# Altium footprint library LibFootprint1819.PcbLib: 8 footprints
Each footprint in its own frame and in the unit in brackets; x right, y up, seen from the top. Pads: shape width x height; smd on the part's side, far side on the other; paste and mask are expansions set on the pad; w line width, h text height; cw(c..) or ccw(c..) is an arc to the next point about the centre after c.
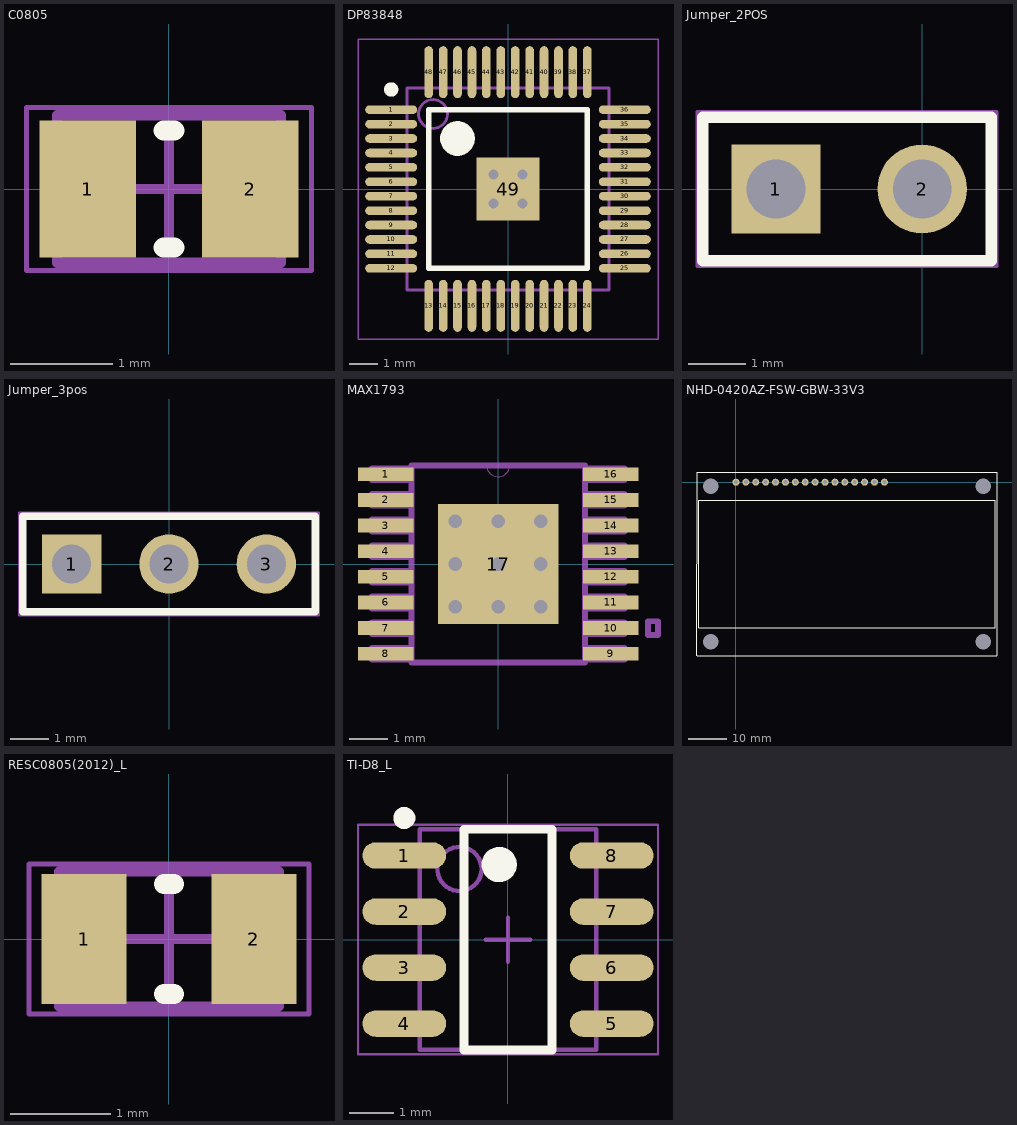
[diagram p0: the footprints below, top view; thin cyan lines are the x and y axes]

## C0805 [mm]
height 1.45
pads (2):
  rect 0.95x1.35 smd: 1(-0.8,0) 2(0.8,0)
Top Overlay:
  lines w0.2: -0.05,-0.575 0.05,-0.575 ; -0.05,0.575 0.05,0.575
Mechanical 13:
  lines w0.1: -1.1,-0.725 -1.1,0.725 1.1,0.725 1.1,-0.725 -1.1,-0.725
Mechanical 15:
  lines w0.05: -1.4,-0.8 -1.4,0.8 1.4,0.8 1.4,-0.8 -1.4,-0.8
  lines w0.1: -0.5,0 0.5,0 ; 0,-0.5 0,0.5
3D body: height 1.45, standoff 0, extent -0.6,-0.725 0.6,0.725
3D body: height 1.45, standoff 0, extent -1.1,-0.725 -0.6,0.725
3D body: height 1.45, standoff 0, extent 0.6,-0.725 1.1,0.725

## DP83848 [mm] "Thin QFP, 48-Leads, Body 7x7mm, Pitch 0.5mm, Exposed Pad, IPC Medium Density"
height 1.6
pads (49):
  oval 1.8x0.3 smd: 1(-4.05,2.75) 2(-4.05,2.25) 3(-4.05,1.75) 4(-4.05,1.25) 5(-4.05,0.75) 6(-4.05,0.25) 7(-4.05,-0.25) 8(-4.05,-0.75) 9(-4.05,-1.25) 10(-4.05,-1.75) 11(-4.05,-2.25) 12(-4.05,-2.75) 25(4.05,-2.75) 26(4.05,-2.25) 27(4.05,-1.75) 28(4.05,-1.25) 29(4.05,-0.75) 30(4.05,-0.25) 31(4.05,0.25) 32(4.05,0.75) 33(4.05,1.25) 34(4.05,1.75) 35(4.05,2.25) 36(4.05,2.75)
  oval 0.3x1.8 smd: 13(-2.75,-4.05) 14(-2.25,-4.05) 15(-1.75,-4.05) 16(-1.25,-4.05) 17(-0.75,-4.05) 18(-0.25,-4.05) 19(0.25,-4.05) 20(0.75,-4.05) 21(1.25,-4.05) 22(1.75,-4.05) 23(2.25,-4.05) 24(2.75,-4.05) 37(2.75,4.05) 38(2.25,4.05) 39(1.75,4.05) 40(1.25,4.05) 41(0.75,4.05) 42(0.25,4.05) 43(-0.25,4.05) 44(-0.75,4.05) 45(-1.25,4.05) 46(-1.75,4.05) 47(-2.25,4.05) 48(-2.75,4.05)
  rect 2.2x2.2 smd: 49(0,0)
via 0.5,-0.5 diameter 0.7 hole 0.35
via -0.5,-0.5 diameter 0.7 hole 0.35
via 0.5,0.5 diameter 0.7 hole 0.35
via -0.5,0.5 diameter 0.7 hole 0.35
Top Overlay:
  circle w0.6: c-1.75,1.75 r0.3
  circle w0.25: c-4.05,3.45 r0.125
  lines w0.2: -2.75,-2.75 2.75,-2.75 2.75,2.75 -2.75,2.75 -2.75,-2.75
Mechanical 13:
  circle w0.1: c-2.6,2.6 r0.5
  lines w0.1: -3.5,-3.5 3.5,-3.5 3.5,3.5 -3.5,3.5 -3.5,-3.5
Mechanical 15:
  lines w0.05: -5.2,-5.2 5.2,-5.2 5.2,5.2 -5.2,5.2 -5.2,-5.2
  lines w0.1: -0.5,0 0.5,0 ; 0,-0.5 0,0.5
3D body: height 1.6, standoff 0, extent -3.5,-3.5 3.5,3.5

## Jumper_2POS [mm]
height 8.38
pads (2):
  rect 1.55x1.55 hole 1.02: 1(-2.54,0)
  round 1.55 hole 1.02: 2(0,0)
Top Overlay:
  lines w0.2: -3.81,-1.245 1.2,-1.245 1.2,1.245 -3.81,1.245 -3.81,-1.245
Mechanical 13:
  lines w0.1: 1.2,1.245 -3.81,1.245 -3.81,-1.245 1.21,-1.245 1.21,-0.622 1.21,0.622 1.21,1.245
Mechanical 15:
  lines w0.05: -3.91,-1.345 -3.91,1.345 1.3,1.345 1.3,0.673 1.3,-0.673 1.3,-1.345 -3.91,-1.345
  lines w0.1: -0.5,0 0.5,0 ; 0,-0.5 0,0.5
3D body: height 0.25, standoff 0, extent -3.81,-1.245 1.21,1.245

## Jumper_3pos [mm]
height 8.38
pads (3):
  rect 1.55x1.55 hole 1.02: 1(-2.54,0)
  round 1.55 hole 1.02: 2(0,0) 3(2.54,0)
Top Overlay:
  lines w0.2: -3.81,-1.245 -3.81,1.245 3.81,1.245 3.81,-1.245 -3.81,-1.245
Mechanical 13:
  lines w0.1: -3.81,-1.245 -3.81,1.245 3.81,1.245 3.81,-1.245 -3.81,-1.245
Mechanical 15:
  lines w0.05: -3.91,-1.345 3.91,-1.345 3.91,1.345 -3.91,1.345 -3.91,-1.345
  lines w0.1: -0.5,0 0.5,0 ; 0,-0.5 0,0.5
3D body "022284033.stp": height 8.38, standoff -3.17, extent -3.81,-1.244 3.81,1.245

## MAX1793 [mil]
pads (17):
  rect 56x14 smd: 1(-114,91) 2(-114,65) 3(-114,39) 4(-114,13) 5(-114,-13) 6(-114,-39) 7(-114,-65) 8(-114,-91) 9(114,-91) 10(114,-65) 11(114,-39) 12(114,-13) 13(114,13) 14(114,39) 15(114,65) 16(114,91)
  rect 122x122 smd: 17(0,0)
via -43.31,43.31 diameter 27.56 hole 13.78
via 43.31,43.31 diameter 27.56 hole 13.78
via 0,43.31 diameter 27.56 hole 13.78
via -43.31,-43.31 diameter 27.56 hole 13.78
via -43.31,0 diameter 27.56 hole 13.78
via 0,-43.31 diameter 27.56 hole 13.78
via 43.31,-43.31 diameter 27.56 hole 13.78
via 43.31,0 diameter 27.56 hole 13.78
via 0,0 diameter 27.56 hole 13.78
Top Paste:
  lines w6: -57,-57 -4,-57 -4,-4 -57,-4 -57,-57 ; -57,4 -4,4 -4,57 -57,57 -57,4 ; 4,-57 57,-57 57,-4 4,-4 4,-57 ; 4,4 57,4 57,57 4,57 4,4
Mechanical 4:
  drawing of 156 lines, arcs and shapes, not listed
  text "*" at -172.56,107.55 h73.82
  text "*" at -172.56,107.55 h73.82

## NHD-0420AZ-FSW-GBW-33V3 [mm] "Ecran LCD 3V3"
pads (20):
  round 1.8 hole 1: 1(0,0) 2(2.54,0) 3(5.08,0) 4(7.62,0) 5(10.16,0) 6(12.7,0) 7(15.24,0) 8(17.78,0) 9(20.32,0) 10(22.86,0) 11(25.4,0) 12(27.94,0) 13(30.48,0) 14(33.02,0) 15(35.56,0) 16(38.1,0)
  round 1.524 hole 4: 17(-6.5,-41) 17(-6.5,-1) 17(63.5,-41) 17(63.5,-1)
Top Overlay:
  lines w0.254: -10,-44.5 67,-44.5 67,2.5 -10,2.5 -10,-44.5 ; -9.6,-37.3 -9.6,-4.7 66.6,-4.7 66.6,-37.3 -9.6,-37.3

## RESC0805(2012)_L [mm]
height 0.7
pads (2):
  rect 0.85x1.3 smd: 1(-0.85,0) 2(0.85,0)
Top Overlay:
  lines w0.2: -0.05,-0.55 0.05,-0.55 ; -0.05,0.55 0.05,0.55
Mechanical 13:
  lines w0.1: -1.1,-0.675 -1.1,0.675 1.1,0.675 1.1,-0.675 -1.1,-0.675
Mechanical 15:
  lines w0.05: -1.4,-0.75 -1.4,0.75 1.4,0.75 1.4,-0.75 -1.4,-0.75
  lines w0.1: -0.5,0 0.5,0 ; 0,-0.5 0,0.5
3D body: height 0.7, standoff 0, extent -1.1,-0.675 -0.68,0.675
3D body: height 0.7, standoff 0, extent -0.68,-0.675 0.68,0.675
3D body: height 0.7, standoff 0, extent 0.68,-0.675 1.1,0.675

## TI-D8_L [mm] "SOIC, 8-Leads, Body 4.9x3.9mm, Pitch 1.27mm, IPC High Density"
height 1.75
pads (8):
  oval 1.9x0.6 smd: 1(-2.35,1.905) 2(-2.35,0.635) 3(-2.35,-0.635) 4(-2.35,-1.905) 5(2.35,-1.905) 6(2.35,-0.635) 7(2.35,0.635) 8(2.35,1.905)
Top Overlay:
  circle w0.4: c-0.2,1.7 r0.2
  circle w0.25: c-2.35,2.755 r0.125
  lines w0.2: -1,-2.5 1,-2.5 1,2.5 -1,2.5 -1,-2.5
Mechanical 13:
  circle w0.1: c-1.1,1.6 r0.5
  lines w0.1: -2,-2.5 2,-2.5 2,2.5 -2,2.5 -2,-2.5
Mechanical 15:
  lines w0.05: -3.4,-2.6 3.4,-2.6 3.4,2.6 -3.4,2.6 -3.4,-2.6
  lines w0.1: -0.5,0 0.5,0 ; 0,-0.5 0,0.5
3D body: height 1.75, standoff 0.1, extent -2,-2.5 2,2.5